# Altium footprint library Connector_Phoenix_GMSTB.PcbLib: 88 footprints (part 1 of 6)
Each footprint in its own frame and in the unit in brackets; x right, y up, seen from the top. Pads: shape width x height; smd on the part's side, far side on the other; paste and mask are expansions set on the pad; w line width, h text height; cw(c..) or ccw(c..) is an arc to the next point about the centre after c.
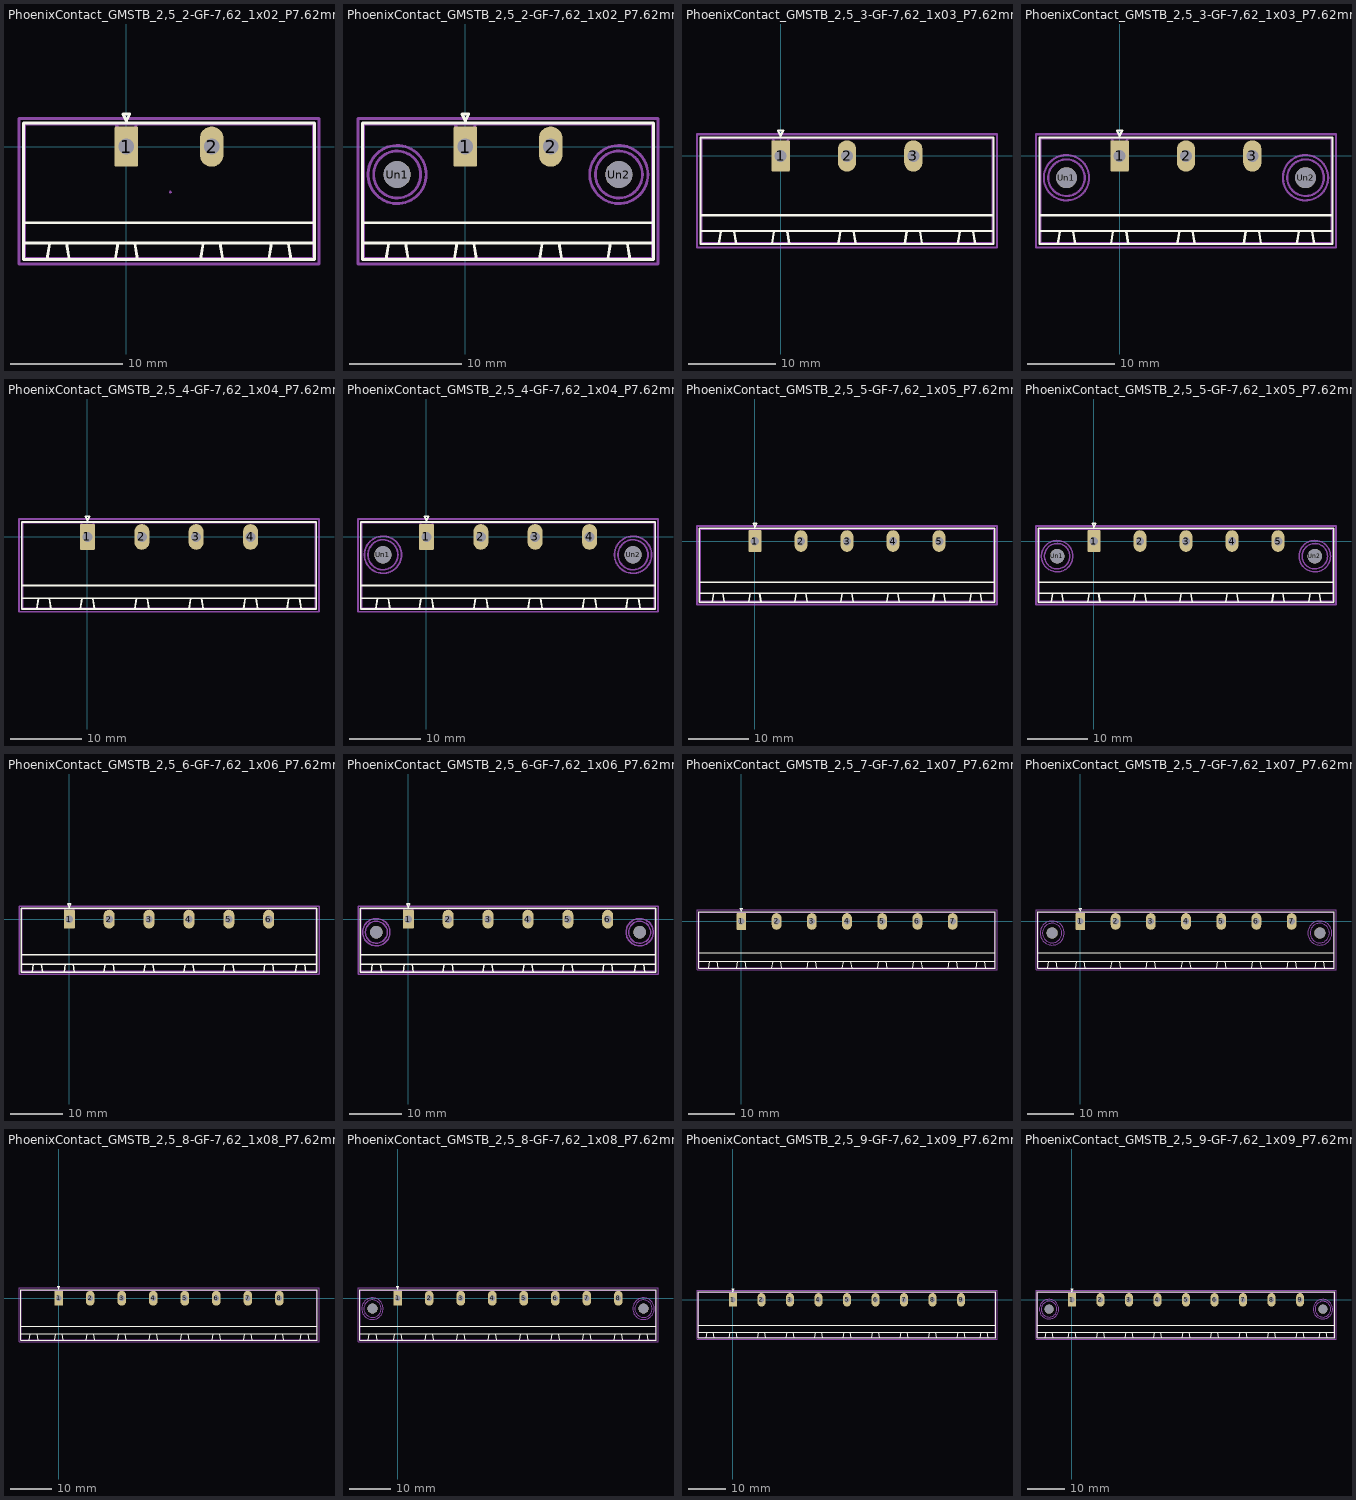
[diagram p0: the footprints below, top view; thin cyan lines are the x and y axes]

## PhoenixContact_GMSTB_2,5_2-GF-7,62_1x02_P7.62mm_Horizontal_ThreadedFlange [mm]
pads (2):
  rrect12% 2.1x3.6 hole 1.4: 1(0,0)
  rrect100% 2.1x3.6 hole 1.4: 2(7.62,0)
F.SilkS:
  lines w0.254: -9.21,-10.11 16.83,-10.11 16.83,2.11 -9.21,2.11 -9.21,-10.11 ; -9.21,-8.61 16.83,-8.61 16.83,-6.81 -9.21,-6.81 -9.21,-8.61 ; -7.1,-10.11 -6.85,-8.61 -5.35,-8.61 -5.1,-10.11 -7.1,-10.11 ; -1,-10.11 -0.75,-8.61 0.75,-8.61 1,-10.11 -1,-10.11 ; -0.3,2.91 0,2.31 0.3,2.91 -0.3,2.91 ; 6.62,-10.11 6.87,-8.61 8.37,-8.61 8.62,-10.11 6.62,-10.11 ; 12.72,-10.11 12.97,-8.61 14.47,-8.61 14.72,-10.11 12.72,-10.11
Top Component Center:
  lines w0.127: 3.81,-4.064 4.064,-4.064 ; 3.937,-4.191 3.937,-3.937
Top Assembly:
  lines w0.254: -0.95,2 0,0.5 0.95,2 ; -9.1,-10 16.72,-10 16.72,2 -9.1,2 -9.1,-10
  text "'.Designator'" at -0.237,0.46 h1
Top Courtyard:
  lines w0.254: -9.6,-10.5 17.22,-10.5 17.22,2.5 -9.6,2.5 -9.6,-10.5
Top Designator:
  text ".Designator" at -3.681,-2.794 h1.52

## PhoenixContact_GMSTB_2,5_2-GF-7,62_1x02_P7.62mm_Horizontal_ThreadedFlange_MountHole [mm]
pads (4):
  rrect12% 2.1x3.6 hole 1.4: 1(0,0)
  rrect100% 2.1x3.6 hole 1.4: 2(7.62,0)
  round 2.4 hole 2.4: Un1(-6.1,-2.5) Un2(13.72,-2.5)
F.SilkS:
  lines w0.254: -9.21,-10.11 16.83,-10.11 16.83,2.11 -9.21,2.11 -9.21,-10.11 ; -9.21,-8.61 16.83,-8.61 16.83,-6.81 -9.21,-6.81 -9.21,-8.61 ; -7.1,-10.11 -6.85,-8.61 -5.35,-8.61 -5.1,-10.11 -7.1,-10.11 ; -1,-10.11 -0.75,-8.61 0.75,-8.61 1,-10.11 -1,-10.11 ; -0.3,2.91 0,2.31 0.3,2.91 -0.3,2.91 ; 6.62,-10.11 6.87,-8.61 8.37,-8.61 8.62,-10.11 6.62,-10.11 ; 12.72,-10.11 12.97,-8.61 14.47,-8.61 14.72,-10.11 12.72,-10.11
B.SilkS:
  circle w0.254: c13.72,-2.5 r2.21
  circle w0.254: c-6.1,-2.5 r2.21
Top Assembly:
  lines w0.254: -0.95,2 0,0.5 0.95,2 ; -9.1,-10 16.72,-10 16.72,2 -9.1,2 -9.1,-10
  text "'.Designator'" at -0.237,0.46 h1
Bottom Assembly:
  circle w0.254: c13.72,-2.5 r2.1
  circle w0.254: c-6.1,-2.5 r2.1
Top Courtyard:
  lines w0.254: -9.6,-10.5 17.22,-10.5 17.22,2.5 -9.6,2.5 -9.6,-10.5
Bottom Courtyard:
  circle w0.254: c13.72,-2.5 r2.6
  circle w0.254: c-6.1,-2.5 r2.6
Top Designator:
  text ".Designator" at -3.808,-4.303 h1.52

## PhoenixContact_GMSTB_2,5_3-GF-7,62_1x03_P7.62mm_Horizontal_ThreadedFlange [mm]
pads (3):
  rrect12% 2.1x3.6 hole 1.4: 1(0,0)
  rrect100% 2.1x3.6 hole 1.4: 2(7.62,0) 3(15.24,0)
F.SilkS:
  lines w0.254: -9.21,-10.11 24.45,-10.11 24.45,2.11 -9.21,2.11 -9.21,-10.11 ; -9.21,-8.61 24.45,-8.61 24.45,-6.81 -9.21,-6.81 -9.21,-8.61 ; -7.1,-10.11 -6.85,-8.61 -5.35,-8.61 -5.1,-10.11 -7.1,-10.11 ; -1,-10.11 -0.75,-8.61 0.75,-8.61 1,-10.11 -1,-10.11 ; -0.3,2.91 0,2.31 0.3,2.91 -0.3,2.91 ; 6.62,-10.11 6.87,-8.61 8.37,-8.61 8.62,-10.11 6.62,-10.11 ; 14.24,-10.11 14.49,-8.61 15.99,-8.61 16.24,-10.11 14.24,-10.11 ; 20.34,-10.11 20.59,-8.61 22.09,-8.61 22.34,-10.11 20.34,-10.11
Top Assembly:
  lines w0.254: -0.95,2 0,0.5 0.95,2 ; -9.1,-10 24.34,-10 24.34,2 -9.1,2 -9.1,-10
  text "'.Designator'" at 3.573,0.46 h1
Top Courtyard:
  lines w0.254: -9.6,-10.5 24.84,-10.5 24.84,2.5 -9.6,2.5 -9.6,-10.5
Top Designator:
  text ".Designator" at 0.002,-4.303 h1.52

## PhoenixContact_GMSTB_2,5_3-GF-7,62_1x03_P7.62mm_Horizontal_ThreadedFlange_MountHole [mm]
pads (5):
  rrect12% 2.1x3.6 hole 1.4: 1(0,0)
  rrect100% 2.1x3.6 hole 1.4: 2(7.62,0) 3(15.24,0)
  round 2.4 hole 2.4: Un1(-6.1,-2.5) Un2(21.34,-2.5)
F.SilkS:
  lines w0.254: -9.21,-10.11 24.45,-10.11 24.45,2.11 -9.21,2.11 -9.21,-10.11 ; -9.21,-8.61 24.45,-8.61 24.45,-6.81 -9.21,-6.81 -9.21,-8.61 ; -7.1,-10.11 -6.85,-8.61 -5.35,-8.61 -5.1,-10.11 -7.1,-10.11 ; -1,-10.11 -0.75,-8.61 0.75,-8.61 1,-10.11 -1,-10.11 ; -0.3,2.91 0,2.31 0.3,2.91 -0.3,2.91 ; 6.62,-10.11 6.87,-8.61 8.37,-8.61 8.62,-10.11 6.62,-10.11 ; 14.24,-10.11 14.49,-8.61 15.99,-8.61 16.24,-10.11 14.24,-10.11 ; 20.34,-10.11 20.59,-8.61 22.09,-8.61 22.34,-10.11 20.34,-10.11
B.SilkS:
  circle w0.254: c21.34,-2.5 r2.21
  circle w0.254: c-6.1,-2.5 r2.21
Top Assembly:
  lines w0.254: -0.95,2 0,0.5 0.95,2 ; -9.1,-10 24.34,-10 24.34,2 -9.1,2 -9.1,-10
  text "'.Designator'" at 3.573,0.46 h1
Bottom Assembly:
  circle w0.254: c21.34,-2.5 r2.1
  circle w0.254: c-6.1,-2.5 r2.1
Top Courtyard:
  lines w0.254: -9.6,-10.5 24.84,-10.5 24.84,2.5 -9.6,2.5 -9.6,-10.5
Bottom Courtyard:
  circle w0.254: c21.34,-2.5 r2.6
  circle w0.254: c-6.1,-2.5 r2.6
Top Designator:
  text ".Designator" at 0.002,-4.303 h1.52

## PhoenixContact_GMSTB_2,5_4-GF-7,62_1x04_P7.62mm_Horizontal_ThreadedFlange [mm]
pads (4):
  rrect12% 2.1x3.6 hole 1.4: 1(0,0)
  rrect100% 2.1x3.6 hole 1.4: 2(7.62,0) 3(15.24,0) 4(22.86,0)
F.SilkS:
  lines w0.254: -9.21,-10.11 32.07,-10.11 32.07,2.11 -9.21,2.11 -9.21,-10.11 ; -9.21,-8.61 32.07,-8.61 32.07,-6.81 -9.21,-6.81 -9.21,-8.61 ; -7.1,-10.11 -6.85,-8.61 -5.35,-8.61 -5.1,-10.11 -7.1,-10.11 ; -1,-10.11 -0.75,-8.61 0.75,-8.61 1,-10.11 -1,-10.11 ; -0.3,2.91 0,2.31 0.3,2.91 -0.3,2.91 ; 6.62,-10.11 6.87,-8.61 8.37,-8.61 8.62,-10.11 6.62,-10.11 ; 14.24,-10.11 14.49,-8.61 15.99,-8.61 16.24,-10.11 14.24,-10.11 ; 21.86,-10.11 22.11,-8.61 23.61,-8.61 23.86,-10.11 21.86,-10.11 ; 27.96,-10.11 28.21,-8.61 29.71,-8.61 29.96,-10.11 27.96,-10.11
Top Assembly:
  lines w0.254: -0.95,2 0,0.5 0.95,2 ; -9.1,-10 31.96,-10 31.96,2 -9.1,2 -9.1,-10
  text "'.Designator'" at 7.383,0.46 h1
Top Courtyard:
  lines w0.254: -9.6,-10.5 32.46,-10.5 32.46,2.5 -9.6,2.5 -9.6,-10.5
Top Designator:
  text ".Designator" at 3.812,-4.303 h1.52

## PhoenixContact_GMSTB_2,5_4-GF-7,62_1x04_P7.62mm_Horizontal_ThreadedFlange_MountHole [mm]
pads (6):
  rrect12% 2.1x3.6 hole 1.4: 1(0,0)
  rrect100% 2.1x3.6 hole 1.4: 2(7.62,0) 3(15.24,0) 4(22.86,0)
  round 2.4 hole 2.4: Un1(-6.1,-2.5) Un2(28.96,-2.5)
F.SilkS:
  lines w0.254: -9.21,-10.11 32.07,-10.11 32.07,2.11 -9.21,2.11 -9.21,-10.11 ; -9.21,-8.61 32.07,-8.61 32.07,-6.81 -9.21,-6.81 -9.21,-8.61 ; -7.1,-10.11 -6.85,-8.61 -5.35,-8.61 -5.1,-10.11 -7.1,-10.11 ; -1,-10.11 -0.75,-8.61 0.75,-8.61 1,-10.11 -1,-10.11 ; -0.3,2.91 0,2.31 0.3,2.91 -0.3,2.91 ; 6.62,-10.11 6.87,-8.61 8.37,-8.61 8.62,-10.11 6.62,-10.11 ; 14.24,-10.11 14.49,-8.61 15.99,-8.61 16.24,-10.11 14.24,-10.11 ; 21.86,-10.11 22.11,-8.61 23.61,-8.61 23.86,-10.11 21.86,-10.11 ; 27.96,-10.11 28.21,-8.61 29.71,-8.61 29.96,-10.11 27.96,-10.11
B.SilkS:
  circle w0.254: c28.96,-2.5 r2.21
  circle w0.254: c-6.1,-2.5 r2.21
Top Assembly:
  lines w0.254: -0.95,2 0,0.5 0.95,2 ; -9.1,-10 31.96,-10 31.96,2 -9.1,2 -9.1,-10
  text "'.Designator'" at 7.383,0.46 h1
Bottom Assembly:
  circle w0.254: c28.96,-2.5 r2.1
  circle w0.254: c-6.1,-2.5 r2.1
Top Courtyard:
  lines w0.254: -9.6,-10.5 32.46,-10.5 32.46,2.5 -9.6,2.5 -9.6,-10.5
Bottom Courtyard:
  circle w0.254: c28.96,-2.5 r2.6
  circle w0.254: c-6.1,-2.5 r2.6
Top Designator:
  text ".Designator" at 3.812,-4.303 h1.52

## PhoenixContact_GMSTB_2,5_5-GF-7,62_1x05_P7.62mm_Horizontal_ThreadedFlange [mm]
pads (5):
  rrect12% 2.1x3.6 hole 1.4: 1(0,0)
  rrect100% 2.1x3.6 hole 1.4: 2(7.62,0) 3(15.24,0) 4(22.86,0) 5(30.48,0)
F.SilkS:
  lines w0.254: -9.21,-10.11 39.69,-10.11 39.69,2.11 -9.21,2.11 -9.21,-10.11 ; -9.21,-8.61 39.69,-8.61 39.69,-6.81 -9.21,-6.81 -9.21,-8.61 ; -7.1,-10.11 -6.85,-8.61 -5.35,-8.61 -5.1,-10.11 -7.1,-10.11 ; -1,-10.11 -0.75,-8.61 0.75,-8.61 1,-10.11 -1,-10.11 ; -0.3,2.91 0,2.31 0.3,2.91 -0.3,2.91 ; 6.62,-10.11 6.87,-8.61 8.37,-8.61 8.62,-10.11 6.62,-10.11 ; 14.24,-10.11 14.49,-8.61 15.99,-8.61 16.24,-10.11 14.24,-10.11 ; 21.86,-10.11 22.11,-8.61 23.61,-8.61 23.86,-10.11 21.86,-10.11 ; 29.48,-10.11 29.73,-8.61 31.23,-8.61 31.48,-10.11 29.48,-10.11 ; 35.58,-10.11 35.83,-8.61 37.33,-8.61 37.58,-10.11 35.58,-10.11
Top Assembly:
  lines w0.254: -0.95,2 0,0.5 0.95,2 ; -9.1,-10 39.58,-10 39.58,2 -9.1,2 -9.1,-10
  text "'.Designator'" at 11.193,0.46 h1
Top Courtyard:
  lines w0.254: -9.6,-10.5 40.08,-10.5 40.08,2.5 -9.6,2.5 -9.6,-10.5
Top Designator:
  text ".Designator" at 7.622,-4.303 h1.52

## PhoenixContact_GMSTB_2,5_5-GF-7,62_1x05_P7.62mm_Horizontal_ThreadedFlange_MountHole [mm]
pads (7):
  rrect12% 2.1x3.6 hole 1.4: 1(0,0)
  rrect100% 2.1x3.6 hole 1.4: 2(7.62,0) 3(15.24,0) 4(22.86,0) 5(30.48,0)
  round 2.4 hole 2.4: Un1(-6.1,-2.5) Un2(36.58,-2.5)
F.SilkS:
  lines w0.254: -9.21,-10.11 39.69,-10.11 39.69,2.11 -9.21,2.11 -9.21,-10.11 ; -9.21,-8.61 39.69,-8.61 39.69,-6.81 -9.21,-6.81 -9.21,-8.61 ; -7.1,-10.11 -6.85,-8.61 -5.35,-8.61 -5.1,-10.11 -7.1,-10.11 ; -1,-10.11 -0.75,-8.61 0.75,-8.61 1,-10.11 -1,-10.11 ; -0.3,2.91 0,2.31 0.3,2.91 -0.3,2.91 ; 6.62,-10.11 6.87,-8.61 8.37,-8.61 8.62,-10.11 6.62,-10.11 ; 14.24,-10.11 14.49,-8.61 15.99,-8.61 16.24,-10.11 14.24,-10.11 ; 21.86,-10.11 22.11,-8.61 23.61,-8.61 23.86,-10.11 21.86,-10.11 ; 29.48,-10.11 29.73,-8.61 31.23,-8.61 31.48,-10.11 29.48,-10.11 ; 35.58,-10.11 35.83,-8.61 37.33,-8.61 37.58,-10.11 35.58,-10.11
B.SilkS:
  circle w0.254: c36.58,-2.5 r2.21
  circle w0.254: c-6.1,-2.5 r2.21
Top Assembly:
  lines w0.254: -0.95,2 0,0.5 0.95,2 ; -9.1,-10 39.58,-10 39.58,2 -9.1,2 -9.1,-10
  text "'.Designator'" at 11.193,0.46 h1
Bottom Assembly:
  circle w0.254: c36.58,-2.5 r2.1
  circle w0.254: c-6.1,-2.5 r2.1
Top Courtyard:
  lines w0.254: -9.6,-10.5 40.08,-10.5 40.08,2.5 -9.6,2.5 -9.6,-10.5
Bottom Courtyard:
  circle w0.254: c36.58,-2.5 r2.6
  circle w0.254: c-6.1,-2.5 r2.6
Top Designator:
  text ".Designator" at 7.622,-4.303 h1.52

## PhoenixContact_GMSTB_2,5_6-GF-7,62_1x06_P7.62mm_Horizontal_ThreadedFlange [mm]
pads (6):
  rrect12% 2.1x3.6 hole 1.4: 1(0,0)
  rrect100% 2.1x3.6 hole 1.4: 2(7.62,0) 3(15.24,0) 4(22.86,0) 5(30.48,0) 6(38.1,0)
F.SilkS:
  lines w0.254: -9.21,-10.11 47.31,-10.11 47.31,2.11 -9.21,2.11 -9.21,-10.11 ; -9.21,-8.61 47.31,-8.61 47.31,-6.81 -9.21,-6.81 -9.21,-8.61 ; -7.1,-10.11 -6.85,-8.61 -5.35,-8.61 -5.1,-10.11 -7.1,-10.11 ; -1,-10.11 -0.75,-8.61 0.75,-8.61 1,-10.11 -1,-10.11 ; -0.3,2.91 0,2.31 0.3,2.91 -0.3,2.91 ; 6.62,-10.11 6.87,-8.61 8.37,-8.61 8.62,-10.11 6.62,-10.11 ; 14.24,-10.11 14.49,-8.61 15.99,-8.61 16.24,-10.11 14.24,-10.11 ; 21.86,-10.11 22.11,-8.61 23.61,-8.61 23.86,-10.11 21.86,-10.11 ; 29.48,-10.11 29.73,-8.61 31.23,-8.61 31.48,-10.11 29.48,-10.11 ; 37.1,-10.11 37.35,-8.61 38.85,-8.61 39.1,-10.11 37.1,-10.11 ; 43.2,-10.11 43.45,-8.61 44.95,-8.61 45.2,-10.11 43.2,-10.11
Top Assembly:
  lines w0.254: -0.95,2 0,0.5 0.95,2 ; -9.1,-10 47.2,-10 47.2,2 -9.1,2 -9.1,-10
  text "'.Designator'" at 15.003,0.46 h1
Top Courtyard:
  lines w0.254: -9.6,-10.5 47.7,-10.5 47.7,2.5 -9.6,2.5 -9.6,-10.5
Top Designator:
  text ".Designator" at 11.432,-4.303 h1.52

## PhoenixContact_GMSTB_2,5_6-GF-7,62_1x06_P7.62mm_Horizontal_ThreadedFlange_MountHole [mm]
pads (8):
  rrect12% 2.1x3.6 hole 1.4: 1(0,0)
  rrect100% 2.1x3.6 hole 1.4: 2(7.62,0) 3(15.24,0) 4(22.86,0) 5(30.48,0) 6(38.1,0)
  round 2.4 hole 2.4: Un1(-6.1,-2.5) Un2(44.2,-2.5)
F.SilkS:
  lines w0.254: -9.21,-10.11 47.31,-10.11 47.31,2.11 -9.21,2.11 -9.21,-10.11 ; -9.21,-8.61 47.31,-8.61 47.31,-6.81 -9.21,-6.81 -9.21,-8.61 ; -7.1,-10.11 -6.85,-8.61 -5.35,-8.61 -5.1,-10.11 -7.1,-10.11 ; -1,-10.11 -0.75,-8.61 0.75,-8.61 1,-10.11 -1,-10.11 ; -0.3,2.91 0,2.31 0.3,2.91 -0.3,2.91 ; 6.62,-10.11 6.87,-8.61 8.37,-8.61 8.62,-10.11 6.62,-10.11 ; 14.24,-10.11 14.49,-8.61 15.99,-8.61 16.24,-10.11 14.24,-10.11 ; 21.86,-10.11 22.11,-8.61 23.61,-8.61 23.86,-10.11 21.86,-10.11 ; 29.48,-10.11 29.73,-8.61 31.23,-8.61 31.48,-10.11 29.48,-10.11 ; 37.1,-10.11 37.35,-8.61 38.85,-8.61 39.1,-10.11 37.1,-10.11 ; 43.2,-10.11 43.45,-8.61 44.95,-8.61 45.2,-10.11 43.2,-10.11
B.SilkS:
  circle w0.254: c44.2,-2.5 r2.21
  circle w0.254: c-6.1,-2.5 r2.21
Top Assembly:
  lines w0.254: -0.95,2 0,0.5 0.95,2 ; -9.1,-10 47.2,-10 47.2,2 -9.1,2 -9.1,-10
  text "'.Designator'" at 15.003,0.46 h1
Bottom Assembly:
  circle w0.254: c44.2,-2.5 r2.1
  circle w0.254: c-6.1,-2.5 r2.1
Top Courtyard:
  lines w0.254: -9.6,-10.5 47.7,-10.5 47.7,2.5 -9.6,2.5 -9.6,-10.5
Bottom Courtyard:
  circle w0.254: c44.2,-2.5 r2.6
  circle w0.254: c-6.1,-2.5 r2.6
Top Designator:
  text ".Designator" at 11.432,-4.303 h1.52

## PhoenixContact_GMSTB_2,5_7-GF-7,62_1x07_P7.62mm_Horizontal_ThreadedFlange [mm]
pads (7):
  rrect12% 2.1x3.6 hole 1.4: 1(0,0)
  rrect100% 2.1x3.6 hole 1.4: 2(7.62,0) 3(15.24,0) 4(22.86,0) 5(30.48,0) 6(38.1,0) 7(45.72,0)
F.SilkS:
  lines w0.254: -9.21,-10.11 54.93,-10.11 54.93,2.11 -9.21,2.11 -9.21,-10.11 ; -9.21,-8.61 54.93,-8.61 54.93,-6.81 -9.21,-6.81 -9.21,-8.61 ; -7.1,-10.11 -6.85,-8.61 -5.35,-8.61 -5.1,-10.11 -7.1,-10.11 ; -1,-10.11 -0.75,-8.61 0.75,-8.61 1,-10.11 -1,-10.11 ; -0.3,2.91 0,2.31 0.3,2.91 -0.3,2.91 ; 6.62,-10.11 6.87,-8.61 8.37,-8.61 8.62,-10.11 6.62,-10.11 ; 14.24,-10.11 14.49,-8.61 15.99,-8.61 16.24,-10.11 14.24,-10.11 ; 21.86,-10.11 22.11,-8.61 23.61,-8.61 23.86,-10.11 21.86,-10.11 ; 29.48,-10.11 29.73,-8.61 31.23,-8.61 31.48,-10.11 29.48,-10.11 ; 37.1,-10.11 37.35,-8.61 38.85,-8.61 39.1,-10.11 37.1,-10.11 ; 44.72,-10.11 44.97,-8.61 46.47,-8.61 46.72,-10.11 44.72,-10.11 ; 50.82,-10.11 51.07,-8.61 52.57,-8.61 52.82,-10.11 50.82,-10.11
Top Assembly:
  lines w0.254: -0.95,2 0,0.5 0.95,2 ; -9.1,-10 54.82,-10 54.82,2 -9.1,2 -9.1,-10
  text "'.Designator'" at 18.813,0.46 h1
Top Courtyard:
  lines w0.254: -9.6,-10.5 55.32,-10.5 55.32,2.5 -9.6,2.5 -9.6,-10.5
Top Designator:
  text ".Designator" at 15.242,-4.303 h1.52

## PhoenixContact_GMSTB_2,5_7-GF-7,62_1x07_P7.62mm_Horizontal_ThreadedFlange_MountHole [mm]
pads (9):
  rrect12% 2.1x3.6 hole 1.4: 1(0,0)
  rrect100% 2.1x3.6 hole 1.4: 2(7.62,0) 3(15.24,0) 4(22.86,0) 5(30.48,0) 6(38.1,0) 7(45.72,0)
  round 2.4 hole 2.4: Un1(-6.1,-2.5) Un2(51.82,-2.5)
F.SilkS:
  lines w0.254: -9.21,-10.11 54.93,-10.11 54.93,2.11 -9.21,2.11 -9.21,-10.11 ; -9.21,-8.61 54.93,-8.61 54.93,-6.81 -9.21,-6.81 -9.21,-8.61 ; -7.1,-10.11 -6.85,-8.61 -5.35,-8.61 -5.1,-10.11 -7.1,-10.11 ; -1,-10.11 -0.75,-8.61 0.75,-8.61 1,-10.11 -1,-10.11 ; -0.3,2.91 0,2.31 0.3,2.91 -0.3,2.91 ; 6.62,-10.11 6.87,-8.61 8.37,-8.61 8.62,-10.11 6.62,-10.11 ; 14.24,-10.11 14.49,-8.61 15.99,-8.61 16.24,-10.11 14.24,-10.11 ; 21.86,-10.11 22.11,-8.61 23.61,-8.61 23.86,-10.11 21.86,-10.11 ; 29.48,-10.11 29.73,-8.61 31.23,-8.61 31.48,-10.11 29.48,-10.11 ; 37.1,-10.11 37.35,-8.61 38.85,-8.61 39.1,-10.11 37.1,-10.11 ; 44.72,-10.11 44.97,-8.61 46.47,-8.61 46.72,-10.11 44.72,-10.11 ; 50.82,-10.11 51.07,-8.61 52.57,-8.61 52.82,-10.11 50.82,-10.11
B.SilkS:
  circle w0.254: c51.82,-2.5 r2.21
  circle w0.254: c-6.1,-2.5 r2.21
Top Assembly:
  lines w0.254: -0.95,2 0,0.5 0.95,2 ; -9.1,-10 54.82,-10 54.82,2 -9.1,2 -9.1,-10
  text "'.Designator'" at 18.813,0.46 h1
Bottom Assembly:
  circle w0.254: c51.82,-2.5 r2.1
  circle w0.254: c-6.1,-2.5 r2.1
Top Courtyard:
  lines w0.254: -9.6,-10.5 55.32,-10.5 55.32,2.5 -9.6,2.5 -9.6,-10.5
Bottom Courtyard:
  circle w0.254: c51.82,-2.5 r2.6
  circle w0.254: c-6.1,-2.5 r2.6
Top Designator:
  text ".Designator" at 15.242,-4.303 h1.52

## PhoenixContact_GMSTB_2,5_8-GF-7,62_1x08_P7.62mm_Horizontal_ThreadedFlange [mm]
pads (8):
  rrect12% 2.1x3.6 hole 1.4: 1(0,0)
  rrect100% 2.1x3.6 hole 1.4: 2(7.62,0) 3(15.24,0) 4(22.86,0) 5(30.48,0) 6(38.1,0) 7(45.72,0) 8(53.34,0)
F.SilkS:
  lines w0.254: -9.21,-10.11 62.55,-10.11 62.55,2.11 -9.21,2.11 -9.21,-10.11 ; -9.21,-8.61 62.55,-8.61 62.55,-6.81 -9.21,-6.81 -9.21,-8.61 ; -7.1,-10.11 -6.85,-8.61 -5.35,-8.61 -5.1,-10.11 -7.1,-10.11 ; -1,-10.11 -0.75,-8.61 0.75,-8.61 1,-10.11 -1,-10.11 ; -0.3,2.91 0,2.31 0.3,2.91 -0.3,2.91 ; 6.62,-10.11 6.87,-8.61 8.37,-8.61 8.62,-10.11 6.62,-10.11 ; 14.24,-10.11 14.49,-8.61 15.99,-8.61 16.24,-10.11 14.24,-10.11 ; 21.86,-10.11 22.11,-8.61 23.61,-8.61 23.86,-10.11 21.86,-10.11 ; 29.48,-10.11 29.73,-8.61 31.23,-8.61 31.48,-10.11 29.48,-10.11 ; 37.1,-10.11 37.35,-8.61 38.85,-8.61 39.1,-10.11 37.1,-10.11 ; 44.72,-10.11 44.97,-8.61 46.47,-8.61 46.72,-10.11 44.72,-10.11 ; 52.34,-10.11 52.59,-8.61 54.09,-8.61 54.34,-10.11 52.34,-10.11 ; 58.44,-10.11 58.69,-8.61 60.19,-8.61 60.44,-10.11 58.44,-10.11
Top Assembly:
  lines w0.254: -0.95,2 0,0.5 0.95,2 ; -9.1,-10 62.44,-10 62.44,2 -9.1,2 -9.1,-10
  text "'.Designator'" at 22.623,0.46 h1
Top Courtyard:
  lines w0.254: -9.6,-10.5 62.94,-10.5 62.94,2.5 -9.6,2.5 -9.6,-10.5
Top Designator:
  text ".Designator" at 19.052,-4.303 h1.52

## PhoenixContact_GMSTB_2,5_8-GF-7,62_1x08_P7.62mm_Horizontal_ThreadedFlange_MountHole [mm]
pads (10):
  rrect12% 2.1x3.6 hole 1.4: 1(0,0)
  rrect100% 2.1x3.6 hole 1.4: 2(7.62,0) 3(15.24,0) 4(22.86,0) 5(30.48,0) 6(38.1,0) 7(45.72,0) 8(53.34,0)
  round 2.4 hole 2.4: Un1(-6.1,-2.5) Un2(59.44,-2.5)
F.SilkS:
  lines w0.254: -9.21,-10.11 62.55,-10.11 62.55,2.11 -9.21,2.11 -9.21,-10.11 ; -9.21,-8.61 62.55,-8.61 62.55,-6.81 -9.21,-6.81 -9.21,-8.61 ; -7.1,-10.11 -6.85,-8.61 -5.35,-8.61 -5.1,-10.11 -7.1,-10.11 ; -1,-10.11 -0.75,-8.61 0.75,-8.61 1,-10.11 -1,-10.11 ; -0.3,2.91 0,2.31 0.3,2.91 -0.3,2.91 ; 6.62,-10.11 6.87,-8.61 8.37,-8.61 8.62,-10.11 6.62,-10.11 ; 14.24,-10.11 14.49,-8.61 15.99,-8.61 16.24,-10.11 14.24,-10.11 ; 21.86,-10.11 22.11,-8.61 23.61,-8.61 23.86,-10.11 21.86,-10.11 ; 29.48,-10.11 29.73,-8.61 31.23,-8.61 31.48,-10.11 29.48,-10.11 ; 37.1,-10.11 37.35,-8.61 38.85,-8.61 39.1,-10.11 37.1,-10.11 ; 44.72,-10.11 44.97,-8.61 46.47,-8.61 46.72,-10.11 44.72,-10.11 ; 52.34,-10.11 52.59,-8.61 54.09,-8.61 54.34,-10.11 52.34,-10.11 ; 58.44,-10.11 58.69,-8.61 60.19,-8.61 60.44,-10.11 58.44,-10.11
B.SilkS:
  circle w0.254: c59.44,-2.5 r2.21
  circle w0.254: c-6.1,-2.5 r2.21
Top Assembly:
  lines w0.254: -0.95,2 0,0.5 0.95,2 ; -9.1,-10 62.44,-10 62.44,2 -9.1,2 -9.1,-10
  text "'.Designator'" at 22.623,0.46 h1
Bottom Assembly:
  circle w0.254: c59.44,-2.5 r2.1
  circle w0.254: c-6.1,-2.5 r2.1
Top Courtyard:
  lines w0.254: -9.6,-10.5 62.94,-10.5 62.94,2.5 -9.6,2.5 -9.6,-10.5
Bottom Courtyard:
  circle w0.254: c59.44,-2.5 r2.6
  circle w0.254: c-6.1,-2.5 r2.6
Top Designator:
  text ".Designator" at 19.052,-4.303 h1.52

## PhoenixContact_GMSTB_2,5_9-GF-7,62_1x09_P7.62mm_Horizontal_ThreadedFlange [mm]
pads (9):
  rrect12% 2.1x3.6 hole 1.4: 1(0,0)
  rrect100% 2.1x3.6 hole 1.4: 2(7.62,0) 3(15.24,0) 4(22.86,0) 5(30.48,0) 6(38.1,0) 7(45.72,0) 8(53.34,0) 9(60.96,0)
F.SilkS:
  lines w0.254: -9.21,-10.11 70.17,-10.11 70.17,2.11 -9.21,2.11 -9.21,-10.11 ; -9.21,-8.61 70.17,-8.61 70.17,-6.81 -9.21,-6.81 -9.21,-8.61 ; -7.1,-10.11 -6.85,-8.61 -5.35,-8.61 -5.1,-10.11 -7.1,-10.11 ; -1,-10.11 -0.75,-8.61 0.75,-8.61 1,-10.11 -1,-10.11 ; -0.3,2.91 0,2.31 0.3,2.91 -0.3,2.91 ; 6.62,-10.11 6.87,-8.61 8.37,-8.61 8.62,-10.11 6.62,-10.11 ; 14.24,-10.11 14.49,-8.61 15.99,-8.61 16.24,-10.11 14.24,-10.11 ; 21.86,-10.11 22.11,-8.61 23.61,-8.61 23.86,-10.11 21.86,-10.11 ; 29.48,-10.11 29.73,-8.61 31.23,-8.61 31.48,-10.11 29.48,-10.11 ; 37.1,-10.11 37.35,-8.61 38.85,-8.61 39.1,-10.11 37.1,-10.11 ; 44.72,-10.11 44.97,-8.61 46.47,-8.61 46.72,-10.11 44.72,-10.11 ; 52.34,-10.11 52.59,-8.61 54.09,-8.61 54.34,-10.11 52.34,-10.11 ; 59.96,-10.11 60.21,-8.61 61.71,-8.61 61.96,-10.11 59.96,-10.11 ; 66.06,-10.11 66.31,-8.61 67.81,-8.61 68.06,-10.11 66.06,-10.11
Top Assembly:
  lines w0.254: -0.95,2 0,0.5 0.95,2 ; -9.1,-10 70.06,-10 70.06,2 -9.1,2 -9.1,-10
  text "'.Designator'" at 26.433,0.46 h1
Top Courtyard:
  lines w0.254: -9.6,-10.5 70.56,-10.5 70.56,2.5 -9.6,2.5 -9.6,-10.5
Top Designator:
  text ".Designator" at 22.862,-4.303 h1.52

## PhoenixContact_GMSTB_2,5_9-GF-7,62_1x09_P7.62mm_Horizontal_ThreadedFlange_MountHole [mm]
pads (11):
  rrect12% 2.1x3.6 hole 1.4: 1(0,0)
  rrect100% 2.1x3.6 hole 1.4: 2(7.62,0) 3(15.24,0) 4(22.86,0) 5(30.48,0) 6(38.1,0) 7(45.72,0) 8(53.34,0) 9(60.96,0)
  round 2.4 hole 2.4: Un1(-6.1,-2.5) Un2(67.06,-2.5)
F.SilkS:
  lines w0.254: -9.21,-10.11 70.17,-10.11 70.17,2.11 -9.21,2.11 -9.21,-10.11 ; -9.21,-8.61 70.17,-8.61 70.17,-6.81 -9.21,-6.81 -9.21,-8.61 ; -7.1,-10.11 -6.85,-8.61 -5.35,-8.61 -5.1,-10.11 -7.1,-10.11 ; -1,-10.11 -0.75,-8.61 0.75,-8.61 1,-10.11 -1,-10.11 ; -0.3,2.91 0,2.31 0.3,2.91 -0.3,2.91 ; 6.62,-10.11 6.87,-8.61 8.37,-8.61 8.62,-10.11 6.62,-10.11 ; 14.24,-10.11 14.49,-8.61 15.99,-8.61 16.24,-10.11 14.24,-10.11 ; 21.86,-10.11 22.11,-8.61 23.61,-8.61 23.86,-10.11 21.86,-10.11 ; 29.48,-10.11 29.73,-8.61 31.23,-8.61 31.48,-10.11 29.48,-10.11 ; 37.1,-10.11 37.35,-8.61 38.85,-8.61 39.1,-10.11 37.1,-10.11 ; 44.72,-10.11 44.97,-8.61 46.47,-8.61 46.72,-10.11 44.72,-10.11 ; 52.34,-10.11 52.59,-8.61 54.09,-8.61 54.34,-10.11 52.34,-10.11 ; 59.96,-10.11 60.21,-8.61 61.71,-8.61 61.96,-10.11 59.96,-10.11 ; 66.06,-10.11 66.31,-8.61 67.81,-8.61 68.06,-10.11 66.06,-10.11
B.SilkS:
  circle w0.254: c67.06,-2.5 r2.21
  circle w0.254: c-6.1,-2.5 r2.21
Top Assembly:
  lines w0.254: -0.95,2 0,0.5 0.95,2 ; -9.1,-10 70.06,-10 70.06,2 -9.1,2 -9.1,-10
  text "'.Designator'" at 26.433,0.46 h1
Bottom Assembly:
  circle w0.254: c67.06,-2.5 r2.1
  circle w0.254: c-6.1,-2.5 r2.1
Top Courtyard:
  lines w0.254: -9.6,-10.5 70.56,-10.5 70.56,2.5 -9.6,2.5 -9.6,-10.5
Bottom Courtyard:
  circle w0.254: c67.06,-2.5 r2.6
  circle w0.254: c-6.1,-2.5 r2.6
Top Designator:
  text ".Designator" at 22.862,-4.303 h1.52